# Altium schematic symbol library zener_6.2.SCHLIB: 1 symbol
Pins are listed as number, name and electrical type; pins without a type are passive.

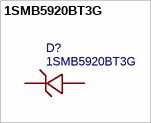
[diagram p0: symbol 1SMB5920BT3G]

## 1SMB5920BT3G
designator D?
BOM_Manufacturer: ON; BOM_Supplier: LCSC; BOM_Manufacturer Part: 1SMB5920BT3G; BOM_Supplier Part: C50527; BOM_JLCPCB Part Class: Extended Part; spicePre: D; spiceSymbolName: 1SMB5920BT3G
footprint SMB_L4.6-W3.6-LS5.3-RD
pins: 1 K, 2 A